# Altium footprint library Amphenol.PcbLib: 7 footprints
Each footprint in its own frame and in the unit in brackets; x right, y up, seen from the top. Pads: shape width x height; smd on the part's side, far side on the other; paste and mask are expansions set on the pad; w line width, h text height; cw(c..) or ccw(c..) is an arc to the next point about the centre after c.
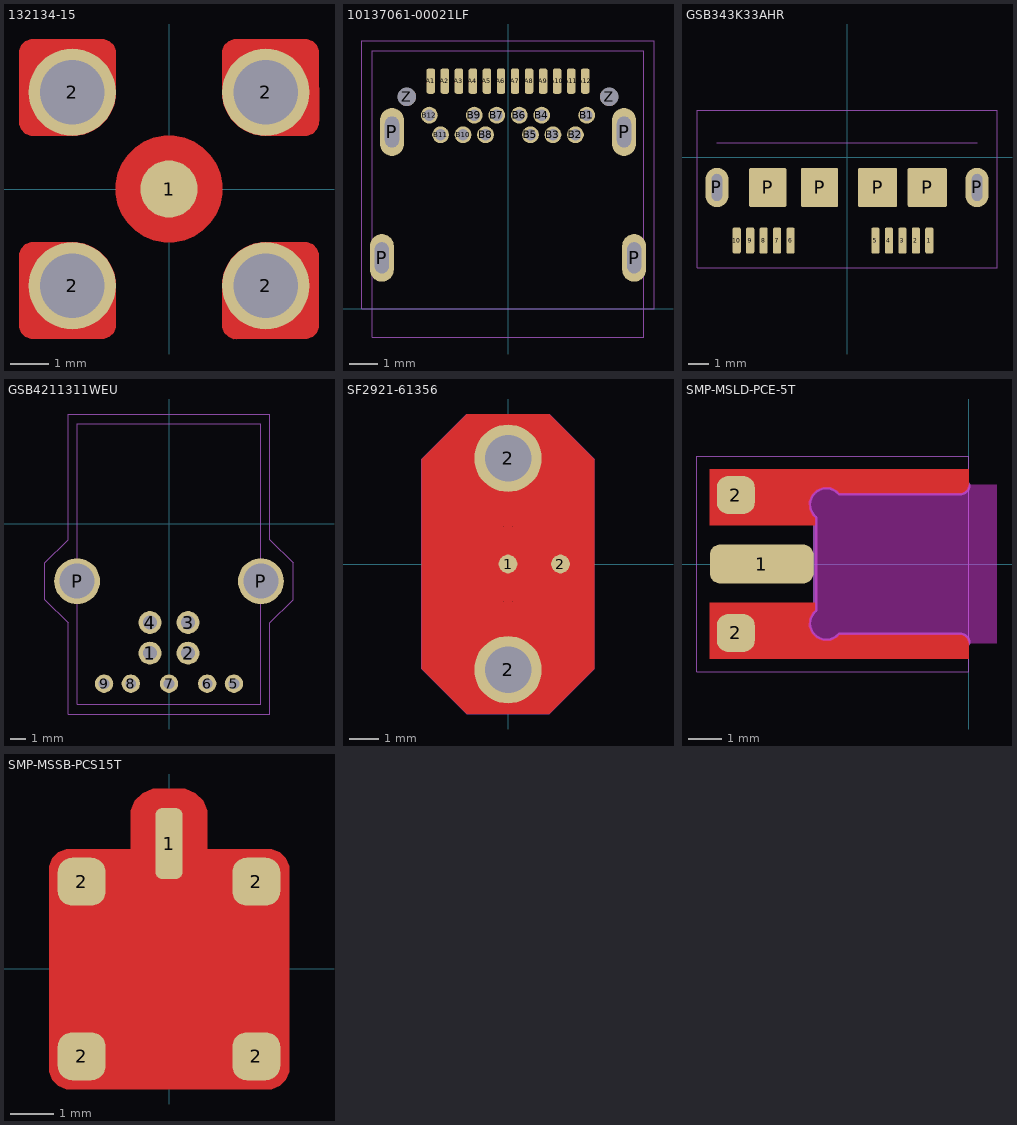
[diagram p0: the footprints below, top view; thin cyan lines are the x and y axes]

## 132134-15 [mil]
pads (5):
  round 59 smd: 1(0,0)
  round 90 hole 67 mask+4: 2(-100,-100) 2(-100,100) 2(100,-100) 2(100,100)
Top Layer:
  region: 155,140 155,142.98 152.72,148.5 148.5,152.72 142.98,155 140,155 70,155 67.02,155 61.5,152.72 57.28,148.5 55,142.98 55,140 55,100 55,95.57 56.73,86.87 60.12,78.68 65.05,71.31 71.31,65.05 78.68,60.12 86.87,56.73 95.57,55 100,55 140,55 142.98,55 148.5,57.28 152.72,61.5 155,67.02 155,70
  region: 140,-155 142.98,-155 148.5,-152.72 152.72,-148.5 155,-142.98 155,-140 155,-70 155,-67.02 152.72,-61.5 148.5,-57.28 142.98,-55 140,-55 100,-55 95.57,-55 86.87,-56.73 78.68,-60.12 71.31,-65.05 65.05,-71.31 60.12,-78.68 56.73,-86.87 55,-95.57 55,-100 55,-140 55,-142.98 57.28,-148.5 61.5,-152.72 67.02,-155 70,-155
  region: -155,-140 -155,-142.98 -152.72,-148.5 -148.5,-152.72 -142.98,-155 -140,-155 -70,-155 -67.02,-155 -61.5,-152.72 -57.28,-148.5 -55,-142.98 -55,-140 -55,-100 -55,-95.57 -56.73,-86.87 -60.12,-78.68 -65.05,-71.31 -71.31,-65.05 -78.68,-60.12 -86.87,-56.73 -95.57,-55 -100,-55 -140,-55 -142.98,-55 -148.5,-57.28 -152.72,-61.5 -155,-67.02 -155,-70
  pour cut-out: 0,55 -5.42,55 -16.04,52.89 -26.05,48.74 -35.06,42.72 -42.72,35.06 -48.74,26.05 -52.89,16.04 -55,5.42 -55,0 -55,-5.42 -52.89,-16.04 -48.74,-26.05 -42.72,-35.06 -35.06,-42.72 -26.05,-48.74 -16.04,-52.89 -5.42,-55 0,-55 5.42,-55 16.04,-52.89 26.05,-48.74 35.06,-42.72 42.72,-35.06 48.74,-26.05 52.89,-16.04 55,-5.42 55,0 55,5.42 52.89,16.04 48.74,26.05 42.72,35.06 35.06,42.72 26.05,48.74 16.04,52.89 5.42,55
  region: -140,155 -142.98,155 -148.5,152.72 -152.72,148.5 -155,142.98 -155,140 -155,70 -155,67.02 -152.72,61.5 -148.5,57.28 -142.98,55 -140,55 -100,55 -95.57,55 -86.87,56.73 -78.68,60.12 -71.31,65.05 -65.05,71.31 -60.12,78.68 -56.73,86.87 -55,95.57 -55,100 -55,140 -55,142.98 -57.28,148.5 -61.5,152.72 -67.02,155 -70,155
Top Paste:
  drawing of 4 lines, arcs and shapes, not listed
3D body "132134-15.stp": height 375, standoff -155.31, extent -137.79,-137.79 137.8,137.8

## 10137061-00021LF [mm]
pads (30):
  rrect50% 0.3x0.9 smd mask+0.051: A1(-2.75,8.094) A2(-2.25,8.094) A3(-1.75,8.094) A4(-1.25,8.094) A5(-0.75,8.094) A6(-0.25,8.094) A7(0.25,8.094) A8(0.75,8.094) A9(1.25,8.094) A10(1.75,8.094) A11(2.25,8.094) A12(2.75,8.094)
  round 0.6 hole 0.4 mask+0.051: B1(2.8,6.884) B2(2.4,6.184) B3(1.6,6.184) B4(1.2,6.884) B5(0.8,6.184) B6(0.4,6.884) B7(-0.4,6.884) B8(-0.8,6.184) B9(-1.2,6.884) B10(-1.6,6.184) B11(-2.4,6.184) B12(-2.8,6.884)
  oval 0.85x1.7 hole 0.5 slot 1.1 at 90 deg mask+0.051: P(-4.49,1.804) P(-4.13,6.284) P(4.13,6.284) P(4.49,1.804)
  round 0.65 hole 0.65 unplated: Z(-3.6,7.534) Z(3.6,7.534)
Top Courtyard:
  lines w0.025: -5.207,0 5.207,0 5.207,9.525 -5.207,9.525 -5.207,0
Top Component Outline:
  lines w0.025: -4.825,-1.016 4.825,-1.016 4.825,9.184 -4.825,9.184 -4.825,-1.016
3D body "10137061c.stp": height 3.17, standoff -1.02, extent -4.825,-1.016 4.825,9.184

## GSB343K33AHR [mm]
pads (16):
  rrect50% 0.4x1.27 smd mask+0.051: 1(3.975,-4.013) 2(3.325,-4.013) 3(2.675,-4.013) 4(2.025,-4.013) 5(1.375,-4.013) 6(-2.725,-4.013) 7(-3.375,-4.013) 8(-4.025,-4.013) 9(-4.675,-4.013) 10(-5.325,-4.013)
  oval 1.1x1.9 hole 0.5 slot 1.3 at 90 deg: P(-6.275,-1.45) P(6.275,-1.45)
  rrect10% 1.8x1.9 smd mask+0.051: P(-3.825,-1.45) P(-1.325,-1.45)
  rrect10% 1.9x1.9 smd mask+0.051: P(1.475,-1.45) P(3.875,-1.45)
Top Designator:
  text ".Designator" at -3.242,-0.317 h0.89
Top Courtyard:
  lines w0.025: -7.239,-5.334 -7.239,2.286 7.239,2.286 7.239,-5.334 -7.239,-5.334
Top Component Outline:
  lines w0.025: -6.275,0.7 6.275,0.7
3D body "gsb343k33hr.stp": height 2.73, standoff -0.99, extent -6.469,-4.421 6.469,1.397

## GSB4211311WEU [mm]
pads (11):
  round 1.5 hole 0.92: 1(-1.25,-8.46) 2(1.25,-8.46) 3(1.25,-6.46) 4(-1.25,-6.46)
  round 1.2 hole 0.7: 5(4.25,-10.46) 6(2.5,-10.46) 7(0,-10.46) 8(-2.5,-10.46) 9(-4.25,-10.46)
  round 3 hole 2.3: P(-6.02,-3.75) P(6.02,-3.75)
Top Designator:
  text ".Designator" at -3.242,-0.317 h0.89
Top Courtyard:
  lines w0.025: -8.128,-4.953 -8.128,-2.547 -6.604,-1.023 -6.604,7.196 6.604,7.196 6.604,-1.023 8.128,-2.547 8.128,-4.953 6.604,-6.477 6.604,-12.446 -6.604,-12.446 -6.604,-6.477 -8.128,-4.953
Top Component Outline:
  lines w0.025: -6,-11.8 6,-11.8 6,6.55 -6,6.55 -6,-11.8
3D body "c-1932259-1-a1-3d.stp": height 13.2, standoff -4.36, extent -7.497,-11.8 7.497,6.55

## SF2921-61356 [mil]
pads (4):
  round 25 smd paste-100 mask+10: 1(0,0)
  round 90 / inner round 90 / far side round 120 hole 62: 2(0,-141) 2(0,141)
  round 25 smd paste-100 mask+2: 2(70,0)
Top Layer:
  circle w40: c0,0 r70
  region: 115,-5 60,-5 60,0 59.71,5.88 57.42,17.42 52.92,28.28 46.38,38.06 38.06,46.38 28.28,52.92 17.42,57.42 5.88,59.71 0,60 -5.88,59.71 -17.42,57.42 -28.28,52.92 -38.06,46.38 -46.38,38.06 -52.92,28.28 -57.42,17.42 -59.71,5.88 -60,0 -60,-5 -115,-5 -115,140 -55,200 55,200 115,140
  region: -115,5 -60,5 -60,0 -59.71,-5.88 -57.42,-17.42 -52.92,-28.28 -46.38,-38.06 -38.06,-46.38 -28.28,-52.92 -17.42,-57.42 -5.88,-59.71 0,-60 5.88,-59.71 17.42,-57.42 28.28,-52.92 38.06,-46.38 46.38,-38.06 52.92,-28.28 57.42,-17.42 59.71,-5.88 60,0 60,5 115,5 115,-140 55,-200 -55,-200 -115,-140
  pour cut-out: 0,50 4.92,50 14.58,48.08 23.68,44.31 31.87,38.84 38.84,31.87 44.31,23.68 48.08,14.58 50,4.92 50,0 50,-4.92 48.08,-14.58 44.31,-23.68 38.84,-31.87 31.87,-38.84 23.68,-44.31 14.58,-48.08 4.92,-50 0,-50 -4.92,-50 -14.58,-48.08 -23.68,-44.31 -31.87,-38.84 -38.84,-31.87 -44.31,-23.68 -48.08,-14.58 -50,-4.92 -50,0 -50,4.92 -48.08,14.58 -44.31,23.68 -38.84,31.87 -31.87,38.84 -23.68,44.31 -14.58,48.08 -4.92,50
Top Component Outline:
  lines w1: -115,-140 -55,-200 55,-200 115,-140 115,140 55,200 -55,200 -115,140 -115,-140
3D body "SF2921-61356.STEP": height 379, standoff -5, extent -123.17,-200 123.17,200

## SMP-MSLD-PCE-5T [mil]
pads (3):
  rrect50% 120x45 smd paste-1 mask+2: 1(-240,0)
  rrect60% 44x44 smd paste-100 mask+2: 2(-270,-80) 2(-270,80)
Top Layer:
  region: -300,110 -300,45 -178,45 -178,53.8 -180.83,56.78 -184.4,64.15 -184.72,72.33 -181.74,79.95 -175.95,85.74 -168.33,88.72 -160.15,88.4 -152.78,84.83 -149.8,82 -10,82 -8.01,82 -4.34,83.52 -1.52,86.34 0,90.01 0,92 0,110
  region: -300,-110 -300,-45 -178,-45 -178,-53.8 -180.83,-56.78 -184.4,-64.15 -184.72,-72.33 -181.74,-79.95 -175.95,-85.74 -168.33,-88.72 -160.15,-88.4 -152.78,-84.83 -149.8,-82 -10,-82 -8.01,-82 -4.34,-83.52 -1.52,-86.34 0,-90.01 0,-92 0,-110
Keep-Out Layer:
  board cut-out: -178,-53.8 -181.18,-56.52 -184.82,-64.04 -185.15,-72.4 -182.1,-80.19 -176.19,-86.1 -168.4,-89.15 -160.04,-88.82 -152.52,-85.18 -149.8,-82 -10,-82 -8.05,-82.19 -4.44,-83.69 -1.69,-86.44 -0.19,-90.05 0,-92 33,-92 33,92 0,92 -0.19,90.05 -1.69,86.44 -4.44,83.69 -8.05,82.19 -10,82 -149.8,82 -152.52,85.18 -160.04,88.82 -168.4,89.15 -176.19,86.1 -182.1,80.19 -185.15,72.4 -184.82,64.04 -181.18,56.52 -178,53.8
Top Courtyard:
  lines w1: -315,-125 0,-125 0,125 -315,125 -315,-125
  lines w5: 0,-92 ccw(c-10,-92) -10,-82 -149.8,-82 cw(c-165,-69) -178,-53.8 -178,53.8 cw(c-165,69) -149.8,82 -10,82 ccw(c-10,92) 0,92
3D body "SMP-MSLD-PCE-5T.stp": height 92.24, standoff -65.24, extent -291.34,-98.41 0,98.41

## SMP-MSSB-PCS15T [mil]
pads (5):
  rrect50% 25x65 smd paste-1 mask+2: 1(0,115)
  rrect60% 44x44 smd paste-100 mask+2: 2(-80,-80) 2(-80,80) 2(80,-80) 2(80,80)
Top Layer:
  region: 80,0 79.62,7.71 76.61,22.84 70.71,37.09 62.14,49.92 56.95,55.64 38.17,74.43 37.41,75.18 36.23,76.95 35.42,78.92 35,81.01 35,82.07 35,110 90,110 93.98,110 101.33,106.96 106.96,101.33 110,93.98 110,90 110,-90 110,-93.98 106.96,-101.33 101.33,-106.96 93.98,-110 90,-110 -90,-110 -93.98,-110 -101.33,-106.96 -106.96,-101.33 -110,-93.98 -110,-90 -110,90 -110,93.98 -106.96,101.33 -101.33,106.96 -93.98,110 -90,110 -35,110 -35,82.07 -35,81.14 -35.36,79.3 -36.08,77.57 -37.12,76.02 -37.78,75.36 -56.57,56.57 -61.84,50.75 -70.55,37.71 -76.56,23.22 -79.61,7.84 -80,0 -79.61,-7.84 -76.56,-23.22 -70.55,-37.71 -61.84,-50.75 -50.75,-61.84 -37.71,-70.55 -23.22,-76.56 -7.84,-79.61 0,-80 7.84,-79.61 23.22,-76.56 37.71,-70.55 50.75,-61.84 61.84,-50.75 70.55,-37.71 76.56,-23.22 79.61,-7.84
  pour cut-out: -80,0 -80,7.88 -76.93,23.34 -70.9,37.89 -62.14,51 -56.57,56.57 -37.78,75.36 -37.16,76.05 -36.12,77.59 -35.41,79.31 -35.05,81.14 -35,82.07 -35,140 -35,144.97 -31.19,154.16 -24.16,161.19 -14.97,165 -10,165 10,165 14.97,165 24.16,161.19 31.19,154.16 35,144.97 35,140 35,82.07 35.05,81.01 35.47,78.93 36.28,76.97 37.45,75.21 38.17,74.42 38.17,74.43 56.95,55.64 62.43,50.16 71.04,37.27 76.98,22.95 80,7.75 80,0 80,-7.88 76.93,-23.34 70.89,-37.89 62.14,-51 51,-62.14 37.89,-70.89 23.34,-76.93 7.88,-80 0,-80 -7.88,-80 -23.34,-76.93 -37.89,-70.89 -51,-62.14 -62.14,-51 -70.89,-37.89 -76.93,-23.34 -80,-7.88
Top Paste:
  rectangle: -25,-105 25,-85
  region: 105,-25 105,25 85,25 85,-25
  region: -105,25 -105,-25 -85,-25 -85,25
  region: 105,40 80,40 40,80 40,105 90,105 92.98,105 98.5,102.72 102.72,98.5 105,92.98 105,90
  region: 40,-105 40,-80 80,-40 105,-40 105,-90 105,-92.98 102.72,-98.5 98.5,-102.72 92.98,-105 90,-105
  region: -105,-40 -80,-40 -40,-80 -40,-105 -90,-105 -92.98,-105 -98.5,-102.72 -102.72,-98.5 -105,-92.98 -105,-90
  region: -40,105 -40,80 -80,40 -105,40 -105,90 -105,92.98 -102.72,98.5 -98.5,102.72 -92.98,105 -90,105
Top Component Outline:
  circle w1: c0,0 r88.58
  lines w1: -39.37,98.43 -98.43,98.43 -98.43,-98.43 98.43,-98.43 98.43,98.43 39.37,98.43
3D body "SMP-MSSB-PCS15T.stp": height 162, standoff -0.2, extent -98.42,-98.42 98.43,139.48